# EAGLE library part 41002W90-NP-S-30 (library JTC41002)
http://www.jctc.com.cn/info_175.aspx?itemid=190
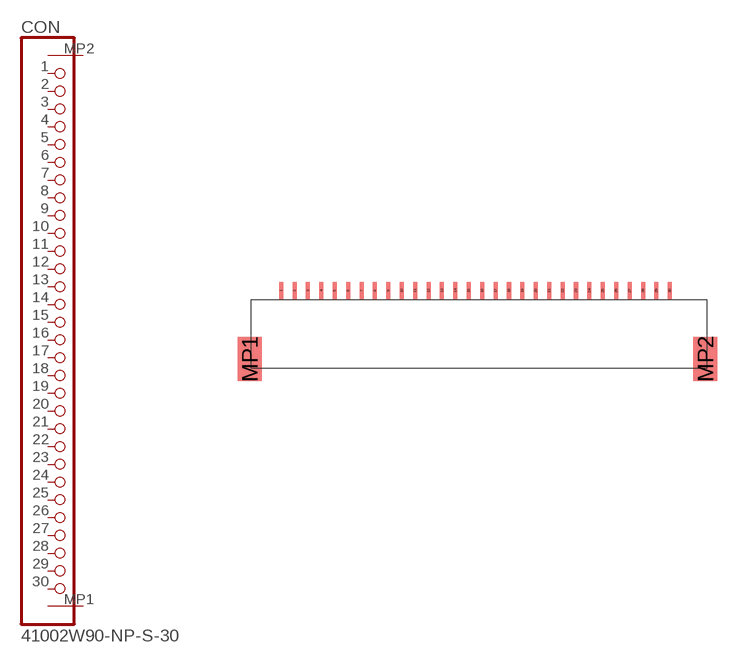
[diagram p0: symbol with the pads of 41200W90-NP-S; footprint 41200W90-NP-S]

Designator prefix CON

## 41002W90-NP-S-30  [41200W90-NP-S]
1  1  pas
2  2  pas
3  3  pas
4  4  pas
5  5  pas
6  6  pas
7  7  pas
8  8  pas
9  9  pas
10  10  pas
11  11  pas
12  12  pas
13  13  pas
14  14  pas
15  15  pas
16  16  pas
17  17  pas
18  18  pas
19  19  pas
20  20  pas
21  21  pas
22  22  pas
23  23  pas
24  24  pas
25  25  pas
26  26  pas
27  27  pas
28  28  pas
29  29  pas
30  30  pas
MP1  MP1  pas
MP2  MP2  pas

## Footprint 41200W90-NP-S (pad centres in mm)
30 pin JCJ 41002 FPC connector Source: http://www.jctc.com.cn/uploadfiles/20170401103609587.jpg Family page: http://www.jctc.com.cn/info_175.aspx?itemid=190
smd 0.3 x 1.3: 1 1.25,6.75; 2 2.25,6.75; 3 3.25,6.75; 4 4.25,6.75; 5 5.25,6.75; 6 6.25,6.75; 7 7.25,6.75; 8 8.25,6.75; 9 9.25,6.75; 10 10.25,6.75; 11 11.25,6.75; 12 12.25,6.75; 13 13.25,6.75; 14 14.25,6.75; 15 15.25,6.75; 16 16.25,6.75; 17 17.25,6.75; 18 18.25,6.75; 19 19.25,6.75; 20 20.25,6.75; 21 21.25,6.75; 22 22.25,6.75; 23 23.25,6.75; 24 24.25,6.75; 25 25.25,6.75; 26 26.25,6.75; 27 27.25,6.75; 28 28.25,6.75; 29 29.25,6.75; 30 30.25,6.75
smd 1.8 x 3.3: MP1 -1.1,1.65; MP2 32.9,1.65